# Altium schematic symbol library IC_PWR_DISTRIBUTION.SchLib: 5 symbols
Pins are listed as number, name and electrical type; pins without a type are passive.

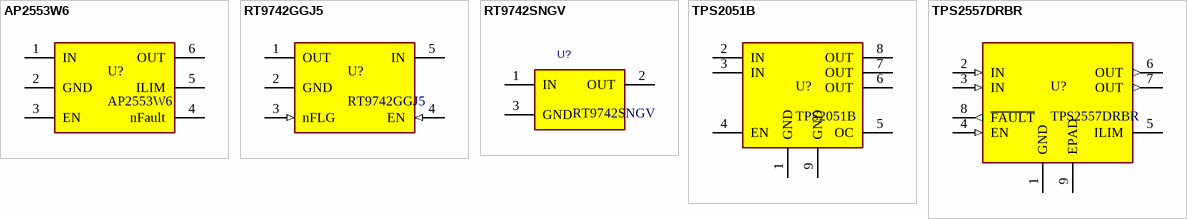
[diagram p0: symbols AP2553W6 to TPS2557DRBR]

## AP2553W6
designator U?
PRECISION ADJUSTABLE CURRENT-LIMITED POWER SWITCHES
footprint SOT23-6
pins: 1 IN, 2 GND, 3 EN, 4 nFault, 5 ILIM, 6 OUT

## RT9742GGJ5
designator U?
High-Side Power / Switches with Flag
footprint SOT23-5
pins: 1 OUT (power), 2 GND (power), 3 nFLG (in), 4 EN (in), 5 IN (power)

## RT9742SNGV
designator U?
High-Side Power Switches with Flag
footprint SOT23-3
pins: 1 IN, 2 OUT, 3 GND

## TPS2051B
designator U?
POWER-DISTRIBUTION SWITCHES
footprint SOIC8-3.9x4.9-P1.27
footprint SOIC8-3.9x4.9-P1.27-PadVia
footprint MSOP8-3x3_P0.65-PADVIA
pins: 1 GND (power), 2 IN, 3 IN, 4 EN (power), 5 OC (power), 6 OUT, 7 OUT, 8 OUT, 9 GND (power)

## TPS2557DRBR
designator U?
0.5-5A adjustable ILIMIT, 2.5-6.5V, 22m&Omega; USB power switch, active-high; MPN: *; LCSC: *
footprint VSON8_3X3_P0.65
pins: 1 GND (power), 2 IN (in), 3 IN (in), 4 EN (in), 5 ILIM, 6 OUT (out), 7 OUT (out), 8 ~{FAULT} (out), 9 EPAD (power)